# Altium footprint library Main board for stk  modify202003031.PcbLib: 70 footprints (part 4 of 5)
Each footprint in its own frame and in the unit in brackets; x right, y up, seen from the top. Pads: shape width x height; smd on the part's side, far side on the other; paste and mask are expansions set on the pad; w line width, h text height; cw(c..) or ccw(c..) is an arc to the next point about the centre after c.
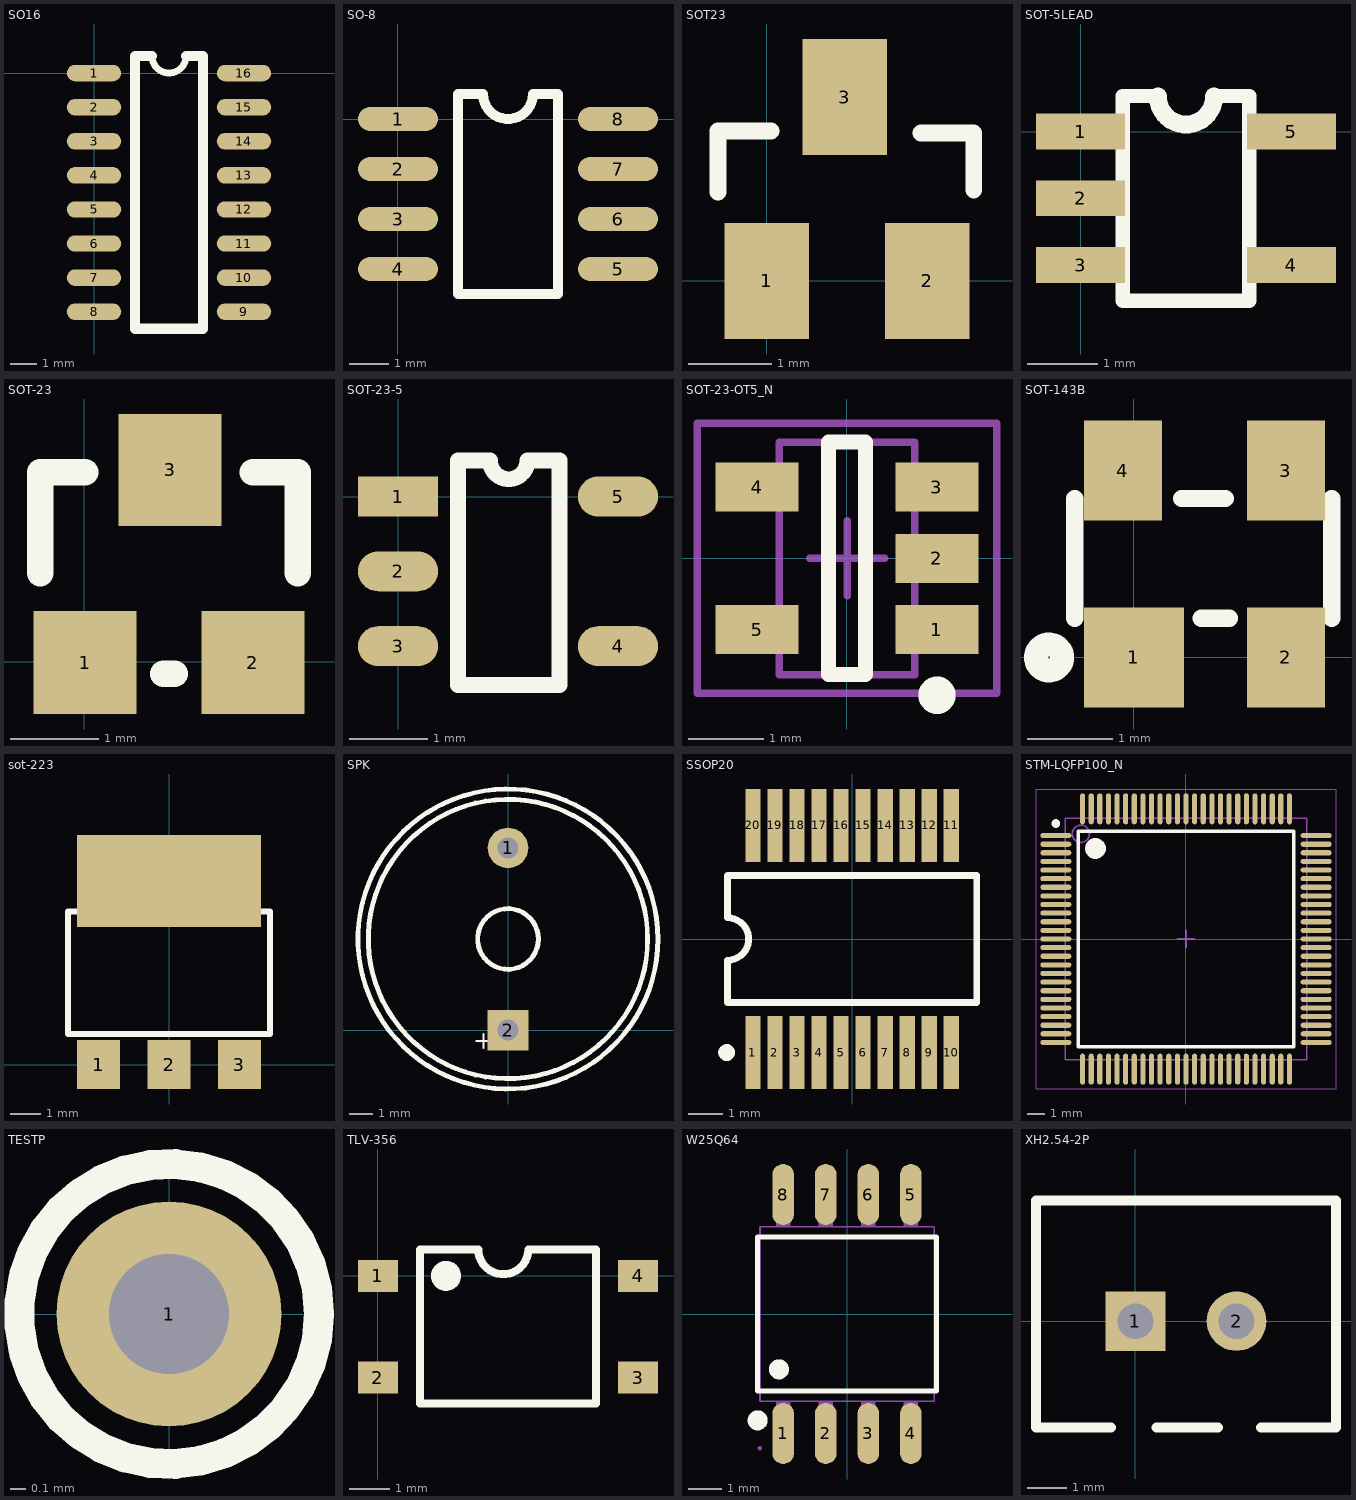
[diagram p3: the footprints below, top view; thin cyan lines are the x and y axes]

## SO16 [mil]
pads (16):
  oval 80x24 smd: 1(0,0) 2(0,-50) 3(0,-100) 4(0,-150) 5(0,-200) 6(0,-250) 7(0,-300) 8(0,-350) 9(220,-350) 10(220,-300) 11(220,-250) 12(220,-200) 13(220,-150) 14(220,-100) 15(220,-50) 16(220,0)
Top Overlay:
  lines w10: 85,25 ccw(c110,25) 135,25
  lines w15: 85,25 60,25 60,-375 160,-375 160,25 135,25

## SO-8 [mil]
pads (8):
  oval 80x24 smd: 1(0,0) 2(0,-50) 3(0,-100) 4(0,-150) 5(220,-150) 6(220,-100) 7(220,-50) 8(220,0)
Top Overlay:
  lines w10: 60,-175 160,-175 160,25 135,25 cw(c110,25) 85,25 60,25 60,-175

## SOT23 [mil]
pads (3):
  rect 40x55 smd: 1(0,0) 2(76,0) 3(37,87)
Top Overlay:
  lines w8: -23,42 -23,71 2,71 ; 73,70 97,70 ; 98,43 98,70

## SOT-5LEAD [mm]
pads (5):
  rect 1.27x0.508 smd: 1(0,0) 2(0,-0.95) 3(0,-1.9) 4(3,-1.9) 5(3,0)
Top Overlay:
  lines w0.2: 1.016,0.508 0.6,0.508 0.6,-2.408 2.4,-2.408 2.4,0.508 1.9,0.508
  lines w0.254: 1.1,0.5 ccw(c1.5,0.5) 1.9,0.5

## SOT-23 [mil]
pads (3):
  rect 46x46 smd: 1(0.24,-0.44) 2(75.24,-0.44)
  rect 46x50 smd: 3(38.24,85.56)
Top Overlay:
  lines w12: -19.76,39.56 -19.76,84.56 0.24,84.56 ; 35.24,-5.44 40.24,-5.44 ; 75.24,84.56 95.24,84.56 95.24,39.56

## SOT-23-5 [mil]
pads (5):
  rect 40x20 smd: 1(0,0)
  oval 40x20 smd: 2(0,-37.4) 3(0,-74.8) 4(110,-74.8) 5(110,0)
Top Overlay:
  lines w7.87: 30,18 30,-94.2 80.7,-94.2 80.7,18 ; 46,18 ccw(c55.35,18) 64.7,18
  lines w8: 30,18 46,18 ; 64.7,18 80.7,18

## SOT-23-OT5_N [mm] "SOT23, 5-Leads, Body 2.9x1.6mm, Pitch 0.95mm, Lead Span 2.7mm, IPC Medium Density"
height 1.45
pads (5):
  rect 1.1x0.65 smd: 1(1.2,-0.95) 2(1.2,0) 3(1.2,0.95) 4(-1.2,0.95) 5(-1.2,-0.95)
Top Overlay:
  circle w0.25: c1.2,-1.825 r0.125
  lines w0.2: -0.25,-1.55 -0.25,1.55 0.25,1.55 0.25,-1.55 -0.25,-1.55
Mechanical 13:
  lines w0.1: -0.9,-1.55 0.9,-1.55 0.9,1.55 -0.9,1.55 -0.9,-1.55
Mechanical 15:
  lines w0.1: -0.5,0 0.5,0 ; 0,-0.5 0,0.5 ; -2,-1.8 2,-1.8 2,1.8 -2,1.8 -2,-1.8
3D body: height 1.45, standoff 0, extent -0.9,-1.55 0.9,1.55

## SOT-143B [mil]
pads (4):
  rect 46x46 smd: 1(0,0)
  rect 36x46 smd: 2(70,0) 3(70,86) 4(-5,86)
Top Overlay:
  circle w11: c-39,0 r6
  lines w8: -27.11,18 -27.11,73.12 ; 22,73.12 42,73.12 ; 31,18 44,18 ; 91,18 91,73.12

## sot-223 [mm]
pads (4):
  rect 1.4x1.6 smd: 1(-2.3,0) 2(0,0) 3(2.3,0)
  rect 6x3 smd: ""(0,6)
Top Overlay:
  lines w0.2: -3.3,1 3.3,1 3.3,5 -3.3,5 -3.3,1

## SPK [mm]
pads (2):
  round 1.7 hole 0.889: 1(0,7.62)
  rect 1.7x1.7 hole 0.889: 2(0,0)
Top Overlay:
  circle w0.203: c0,3.81 r5.842
  circle w0.203: c0,3.81 r1.27
  circle w0.203: c0,3.81 r6.274
  text "+" at -0.686,-0.914 h0.76

## SSOP20 [mm] "SSOP; 20 Leads; Body Width 5.3 mm; Pitch 0.65 mm"
height 1.99
pads (20):
  rect 0.45x2.15 smd: 1(-2.925,-3.35) 2(-2.275,-3.35) 3(-1.625,-3.35) 4(-0.975,-3.35) 5(-0.325,-3.35) 6(0.325,-3.35) 7(0.975,-3.35) 8(1.625,-3.35) 9(2.275,-3.35) 10(2.925,-3.35) 11(2.925,3.35) 12(2.275,3.35) 13(1.625,3.35) 14(0.975,3.35) 15(0.325,3.35) 16(-0.325,3.35) 17(-0.975,3.35) 18(-1.625,3.35) 19(-2.275,3.35) 20(-2.925,3.35)
Top Overlay:
  circle w0.25: c-3.7,-3.35 r0.125
  lines w0.2: -3.675,-1.875 3.675,-1.875 3.675,1.875 -3.675,1.875 -3.675,0.625 cw(c-3.675,0) -3.675,-0.625 -3.675,-1.875

## STM-LQFP100_N [mm] "Thin QFP, 100-Leads, Body 14x14mm, Pitch 0.5mm, IPC Medium Density"
height 1.6
pads (100):
  oval 1.8x0.3 smd: 1(-7.55,6) 2(-7.55,5.5) 3(-7.55,5) 4(-7.55,4.5) 5(-7.55,4) 6(-7.55,3.5) 7(-7.55,3) 8(-7.55,2.5) 9(-7.55,2) 10(-7.55,1.5) 11(-7.55,1) 12(-7.55,0.5) 13(-7.55,0) 14(-7.55,-0.5) 15(-7.55,-1) 16(-7.55,-1.5) 17(-7.55,-2) 18(-7.55,-2.5) 19(-7.55,-3) 20(-7.55,-3.5) 21(-7.55,-4) 22(-7.55,-4.5) 23(-7.55,-5) 24(-7.55,-5.5) 25(-7.55,-6) 51(7.55,-6) 52(7.55,-5.5) 53(7.55,-5) 54(7.55,-4.5) 55(7.55,-4) 56(7.55,-3.5) 57(7.55,-3) 58(7.55,-2.5) 59(7.55,-2) 60(7.55,-1.5) 61(7.55,-1) 62(7.55,-0.5) 63(7.55,0) 64(7.55,0.5) 65(7.55,1) 66(7.55,1.5) 67(7.55,2) 68(7.55,2.5) 69(7.55,3) 70(7.55,3.5) 71(7.55,4) 72(7.55,4.5) 73(7.55,5) 74(7.55,5.5) 75(7.55,6)
  oval 0.3x1.8 smd: 26(-6,-7.55) 27(-5.5,-7.55) 28(-5,-7.55) 29(-4.5,-7.55) 30(-4,-7.55) 31(-3.5,-7.55) 32(-3,-7.55) 33(-2.5,-7.55) 34(-2,-7.55) 35(-1.5,-7.55) 36(-1,-7.55) 37(-0.5,-7.55) 38(0,-7.55) 39(0.5,-7.55) 40(1,-7.55) 41(1.5,-7.55) 42(2,-7.55) 43(2.5,-7.55) 44(3,-7.55) 45(3.5,-7.55) 46(4,-7.55) 47(4.5,-7.55) 48(5,-7.55) 49(5.5,-7.55) 50(6,-7.55) 76(6,7.55) 77(5.5,7.55) 78(5,7.55) 79(4.5,7.55) 80(4,7.55) 81(3.5,7.55) 82(3,7.55) 83(2.5,7.55) 84(2,7.55) 85(1.5,7.55) 86(1,7.55) 87(0.5,7.55) 88(0,7.55) 89(-0.5,7.55) 90(-1,7.55) 91(-1.5,7.55) 92(-2,7.55) 93(-2.5,7.55) 94(-3,7.55) 95(-3.5,7.55) 96(-4,7.55) 97(-4.5,7.55) 98(-5,7.55) 99(-5.5,7.55) 100(-6,7.55)
Top Overlay:
  circle w0.6: c-5.25,5.25 r0.3
  circle w0.25: c-7.55,6.7 r0.125
  lines w0.2: -6.25,-6.25 6.25,-6.25 6.25,6.25 -6.25,6.25 -6.25,-6.25
Mechanical 13:
  circle w0.1: c-6.1,6.1 r0.5
  lines w0.1: -7,-7 7,-7 7,7 -7,7 -7,-7
Mechanical 15:
  lines w0.05: -8.7,-8.7 8.7,-8.7 8.7,8.7 -8.7,8.7 -8.7,-8.7
  lines w0.1: -0.5,0 0.5,0 ; 0,-0.5 0,0.5
3D body: height 1.6, standoff 0.05, extent -7,-7 7,7

## TESTP [mm]
pads (1):
  round 1.5 hole 0.8: 1(0,0)
Top Overlay:
  circle w0.2: c0,0 r1

## TLV-356 [mm]
pads (4):
  rect 1x0.8 smd: 1(0,0) 2(0,-2.54) 3(6.5,-2.54) 4(6.5,0)
Top Overlay:
  circle w0.5: c1.7,0 r0.124
  lines w0.2: 2.457,0.665 1.05,0.665 1.05,-3.195 5.45,-3.195 5.45,0.665 3.757,0.665 cw(c3.132,0.665) 2.507,0.665

## W25Q64 [mm]
pads (8):
  oval 0.65x1.822 smd: 1(-1.905,-3.566) 2(-0.635,-3.566) 3(0.635,-3.566) 4(1.905,-3.566) 5(1.905,3.566) 6(0.635,3.566) 7(-0.635,3.566) 8(-1.905,3.566)
Top Overlay:
  circle w0.3: c-2.667,-3.175 r0.15
  circle w0.3: c-2.032,-1.651 r0.15
  lines w0.152: -2.676,-2.295 2.676,-2.295 2.676,2.295 -2.676,2.295 -2.676,-2.295
Mechanical 6:
  circle w0.3: c-1.905,-3.048 r0.15
Mechanical 15:
  region: -1.695,3.39 -1.695,2.59 -2.115,2.59 -2.115,3.39
  region: -1.695,4 -1.695,3.38 -2.115,3.38 -2.115,4
  region: -0.425,3.39 -0.425,2.59 -0.845,2.59 -0.845,3.39
  region: -0.425,4 -0.425,3.38 -0.845,3.38 -0.845,4
  region: 0.845,3.39 0.845,2.59 0.425,2.59 0.425,3.39
  region: 0.845,4 0.845,3.38 0.425,3.38 0.425,4
  region: 2.115,3.39 2.115,2.59 1.695,2.59 1.695,3.39
  region: 2.115,4 2.115,3.38 1.695,3.38 1.695,4
  region: 2.115,-3.39 2.115,-2.59 1.695,-2.59 1.695,-3.39
  region: 2.115,-4 2.115,-3.38 1.695,-3.38 1.695,-4
  region: 0.845,-3.39 0.845,-2.59 0.425,-2.59 0.425,-3.39
  region: 0.845,-4 0.845,-3.38 0.425,-3.38 0.425,-4
  region: -0.425,-3.39 -0.425,-2.59 -0.845,-2.59 -0.845,-3.39
  region: -0.425,-4 -0.425,-3.38 -0.845,-3.38 -0.845,-4
  region: -1.695,-3.39 -1.695,-2.59 -2.115,-2.59 -2.115,-3.39
  region: -1.695,-4 -1.695,-3.38 -2.115,-3.38 -2.115,-4
  region: -2.54,-4 -2.54,-3.975 -2.575,-3.94 -2.625,-3.94 -2.66,-3.975 -2.66,-4 -2.66,-4.025 -2.625,-4.06 -2.575,-4.06 -2.54,-4.025 -2.54,-4
  lines w0.051: -2.6,-2.6 2.6,-2.6 2.6,2.6 -2.6,2.6 -2.6,-2.6

## XH2.54-2P [mm]
height 7
pads (2):
  rect 1.5x1.5 hole 0.9: 1(0,0)
  round 1.5 hole 0.9: 2(2.54,0)
Top Overlay:
  lines w0.254: -0.615,-2.67 -2.5,-2.67 -2.5,3.03 5.04,3.03 5.04,-2.67 3.155,-2.67 ; 0.535,-2.67 2.075,-2.67